# Altium footprint library AMSComponents.PcbLib: 22 footprints (part 1 of 2)
Each footprint in its own frame and in the unit in brackets; x right, y up, seen from the top. Pads: shape width x height; smd on the part's side, far side on the other; paste and mask are expansions set on the pad; w line width, h text height; cw(c..) or ccw(c..) is an arc to the next point about the centre after c.
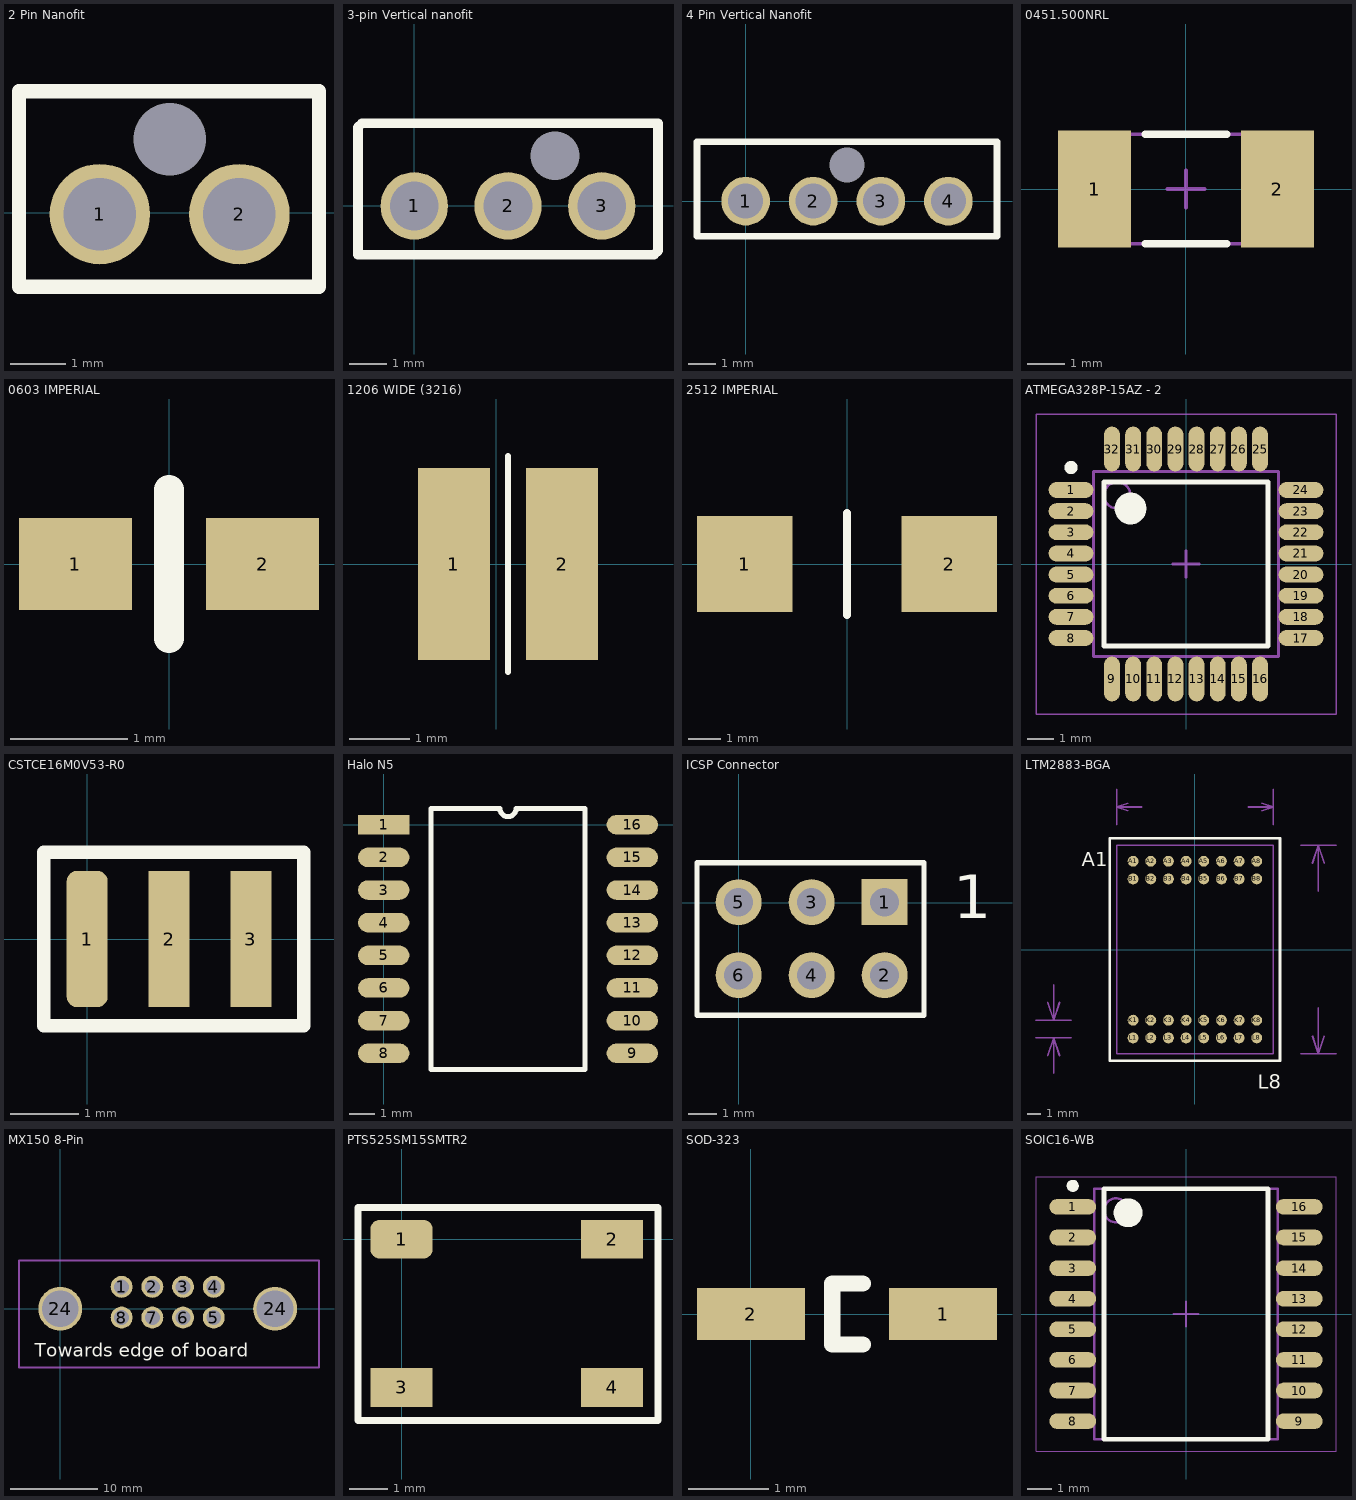
[diagram p0: the footprints below, top view; thin cyan lines are the x and y axes]

## 2 Pin Nanofit [mm]
pads (3):
  round 1.8 hole 1.3: 1(2.475,-0.025) 2(4.975,-0.025)
  round 0 hole 1.3: 3(3.725,1.315)
Top Overlay:
  lines w0.254: 1.025,-1.325 6.4,-1.325 6.4,2.175 1.025,2.175 1.025,-1.325

## 3-pin Vertical nanofit [mm]
pads (4):
  round 1.8 hole 1.3: 1(0,0) 2(2.5,0) 3(5,0)
  round 0 hole 1.3: 6(3.75,1.34)
Top Overlay:
  lines w0.254: -1.5,-1.3 -1.3,-1.3 6.4,-1.3 6.5,-1.2 6.5,2.2 -1.4,2.2 -1.5,2.1 -1.5,-1.1 -1.5,-1.3

## 4 Pin Vertical Nanofit [mm]
pads (5):
  round 1.8 hole 1.3: 1(0,0) 2(2.5,0) 3(5,0) 4(7.5,0)
  round 0 hole 1.3: 6(3.75,1.34)
Top Overlay:
  lines w0.254: -1.8,-1.3 -1.8,2.2 9.3,2.2 9.3,-1.3 -1.3,-1.3 -1.5,-1.3 -1.8,-1.3

## 0451.500NRL [mm] "Fuse Board MNT 500mA 125VAC/DC"
height 2.94
pads (2):
  rect 1.96x3.15 smd: 1(-2.455,0) 2(2.455,0)
Top Overlay:
  lines w0.2: -1.1,-1.475 1.1,-1.475 ; -1.1,1.475 1.1,1.475
Mechanical 13:
  lines w0.1: -3.15,-1.47 3.15,-1.47 3.15,1.47 -3.15,1.47 -3.15,-1.47
Mechanical 15:
  lines w0.1: -0.5,0 0.5,0 ; 0,-0.5 0,0.5
3D body: height 2.94, standoff 0, extent 1.7,-1.47 3.15,1.47
3D body: height 2.94, standoff 0, extent -3.15,-1.47 -1.7,1.47
3D body: height 2.94, standoff 0, extent -1.7,-1.47 1.7,1.47

## 0603 IMPERIAL [mil]
pads (2):
  rect 38x31 smd: 1(-31.5,0) 2(31.5,0)
Top Overlay:
  lines w10: 0,-25 0,25

## 1206 WIDE (3216) [mm]
pads (2):
  rect 1.2x3.2 smd: 1(-0.7,0) 2(1.1,0)
Top Overlay:
  lines w0.1: 0.2,-1.8 0.2,1.8

## 2512 IMPERIAL [mm]
pads (2):
  rect 3x3 smd: 1(-3.2,0) 2(3.2,0)
Top Overlay:
  lines w0.254: 0,-1.6 0,1.6

## ATMEGA328P-15AZ - 2 [mm] "TQFP, 32-Leads, Body 7.00x7.00mm, Pitch 0.80mm, IPC Low Density"
height 1.2
pads (32):
  oval 1.7x0.6 smd: 1(-4.35,2.8) 2(-4.35,2) 3(-4.35,1.2) 4(-4.35,0.4) 5(-4.35,-0.4) 6(-4.35,-1.2) 7(-4.35,-2) 8(-4.35,-2.8) 17(4.35,-2.8) 18(4.35,-2) 19(4.35,-1.2) 20(4.35,-0.4) 21(4.35,0.4) 22(4.35,1.2) 23(4.35,2) 24(4.35,2.8)
  oval 0.6x1.7 smd: 9(-2.8,-4.35) 10(-2,-4.35) 11(-1.2,-4.35) 12(-0.4,-4.35) 13(0.4,-4.35) 14(1.2,-4.35) 15(2,-4.35) 16(2.8,-4.35) 25(2.8,4.35) 26(2,4.35) 27(1.2,4.35) 28(0.4,4.35) 29(-0.4,4.35) 30(-1.2,4.35) 31(-2,4.35) 32(-2.8,4.35)
Top Overlay:
  circle w0.6: c-2.1,2.1 r0.3
  circle w0.25: c-4.35,3.65 r0.125
  lines w0.2: -3.1,-3.1 3.1,-3.1 3.1,3.1 -3.1,3.1 -3.1,-3.1
Mechanical 13:
  circle w0.1: c-2.6,2.6 r0.5
  lines w0.1: -3.5,-3.5 3.5,-3.5 3.5,3.5 -3.5,3.5 -3.5,-3.5
Mechanical 15:
  lines w0.05: -5.675,-5.675 5.675,-5.675 5.675,5.675 -5.675,5.675 -5.675,-5.675
  lines w0.1: -0.5,0 0.5,0 ; 0,-0.5 0,0.5
3D body: height 1.2, standoff 0.05, extent -3.5,-3.5 3.5,3.5

## CSTCE16M0V53-R0 [mm] "16MHz Resonator"
height 1
pads (3):
  rrect50% 0.6x2 smd: 1(0,0)
  rect 0.6x2 smd: 2(1.2,0) 3(2.4,0)
Top Overlay:
  lines w0.2: -0.635,-1.27 -0.635,-0.465 -0.635,1.27 3.175,1.27 3.175,-1.27 -0.635,-1.27

## Halo N5 [mm]
pads (16):
  rect 2x0.76 smd: 1(0,0)
  oval 2x0.76 smd: 2(0,-1.27) 3(0,-2.54) 4(0,-3.81) 5(0,-5.08) 6(0,-6.35) 7(0,-7.62) 8(0,-8.89) 9(9.67,-8.89) 10(9.67,-7.62) 11(9.67,-6.35) 12(9.67,-5.08) 13(9.67,-3.81) 14(9.67,-2.54) 15(9.67,-1.27) 16(9.67,0)
Top Overlay:
  lines w0.2: 1.835,-9.525 1.835,0.635 4.517,0.635 ccw(c4.835,0.635) 5.152,0.635 7.835,0.635 7.835,-9.525 1.835,-9.525

## ICSP Connector [mm]
pads (6):
  rect 1.6x1.6 hole 1: 1(5.08,0.025)
  round 1.6 hole 1: 2(5.08,-2.515) 3(2.54,0.025) 4(2.54,-2.515) 5(0,0.025) 6(0,-2.515)
Top Overlay:
  lines w0.178: -1.448,-3.912 6.452,-3.912 6.452,1.397 -1.448,1.397 -1.448,-3.912
  text "1" at 7.468,-0.533 h1.52

## LTM2883-BGA [mil] "http://www.linear.com/product/LTM2883#packaging"
pads (32):
  round 31 smd: A1(-175,250) A2(-125,250) A3(-75,250) A4(-25,250) A5(25,250) A6(75,250) A7(125,250) A8(175,250) B1(-175,200) B2(-125,200) B3(-75,200) B4(-25,200) B5(25,200) B6(75,200) B7(125,200) B8(175,200) K1(-175,-200) K2(-125,-200) K3(-75,-200) K4(-25,-200) K5(25,-200) K6(75,-200) K7(125,-200) K8(175,-200) L1(-175,-250) L2(-125,-250) L3(-75,-250) L4(-25,-250) L5(25,-250) L6(75,-250) L7(125,-250) L8(175,-250)
Top Overlay:
  lines w8: -241.14,-314.96 241.14,-314.96 241.14,314.96 -241.14,314.96 -241.14,-314.96
  text "L8" at 177.17,-393.7 h40
  text "A1" at -319.88,236.22 h40
Mechanical 16:
  lines w5: -450,-250 -350,-250 ; -450,-200 -350,-200 ; -416.67,-300 -400,-250 ; -416.67,-150 -400,-200 ; -400,-350 -400,-250 ; -400,-100 -400,-200 ; -383.33,-300 -400,-250 ; -383.33,-150 -400,-200 ; -221.46,353.54 -221.46,453.54 ; -189.96,393.04 -221.46,403.54 ; -189.96,414.04 -221.46,403.54 ; -151.44,403.54 -221.46,403.54 ; 151.44,403.54 221.46,403.54 ; 189.96,393.04 221.46,403.54 ; 189.96,414.04 221.46,403.54 ; 221.46,353.54 221.46,453.54 ; 299.41,-295.28 399.41,-295.28 ; 299.41,295.28 399.41,295.28 ; 332.74,-245.28 349.41,-295.28 ; 332.74,245.28 349.41,295.28 ; 349.41,-164.95 349.41,-295.28 ; 349.41,164.95 349.41,295.28 ; 366.08,-245.28 349.41,-295.28 ; 366.08,245.28 349.41,295.28 ; -221.46,-295.28 221.46,-295.28 221.46,295.28 -221.46,295.28 -221.46,-295.28
  text "11.25 (mm)" at -141.44,382.8 h31.5
  text "15 (mm)" at 379.4,-154.95 h50
  text "1.27 (mm)" at -280.03,-425.77 h50

## MX150 8-Pin [mm]
pads (10):
  round 2.5 hole 1.7: 1(7,2.5) 2(10.5,2.5) 3(14,2.5) 4(17.5,2.5) 5(17.5,-1) 6(14,-1) 7(10.5,-1) 8(7,-1)
  round 5 hole 4.2 mask+0.102: 24(0,0) 24(24.5,0)
Top Overlay:
  text "Towards edge of board" at -2.9,-5.5 h1.52
Mechanical 1:
  lines w0.254: -4.7,-6.7 -4.7,5.5 29.5,5.5 29.5,-6.7 -4.7,-6.7

## PTS525SM15SMTR2 [mm] "Tact Switch"
pads (4):
  rrect50% 1.6x1 smd: 1(0,0)
  rect 1.6x1 smd: 2(5.4,0) 3(0,-3.8) 4(5.4,-3.8)
Top Overlay:
  lines w0.178: -1.118,-4.648 -1.118,0.813 6.579,0.813 6.579,-4.648 -1.118,-4.648

## SOD-323 [mm] "FLYBACK DIODE"
pads (2):
  rect 1.35x0.65 smd: 1(2.4,0) 2(0,0)
Top Overlay:
  lines w0.203: 1.397,-0.381 1.016,-0.381 1.016,0.381 1.397,0.381

## SOIC16-WB [mm] "Wide Body 16 pin SOIC"
height 2.65
pads (16):
  oval 1.95x0.65 smd: 1(-4.7,4.445) 2(-4.7,3.175) 3(-4.7,1.905) 4(-4.7,0.635) 5(-4.7,-0.635) 6(-4.7,-1.905) 7(-4.7,-3.175) 8(-4.7,-4.445) 9(4.7,-4.445) 10(4.7,-3.175) 11(4.7,-1.905) 12(4.7,-0.635) 13(4.7,0.635) 14(4.7,1.905) 15(4.7,3.175) 16(4.7,4.445)
Top Overlay:
  circle w0.6: c-2.4,4.2 r0.3
  circle w0.25: c-4.7,5.32 r0.125
  lines w0.2: -3.4,-5.2 3.4,-5.2 3.4,5.2 -3.4,5.2 -3.4,-5.2
Mechanical 13:
  circle w0.1: c-2.9,4.3 r0.5
  lines w0.1: -3.8,-5.2 3.8,-5.2 3.8,5.2 -3.8,5.2 -3.8,-5.2
Mechanical 15:
  lines w0.05: -6.225,-5.7 6.225,-5.7 6.225,5.7 -6.225,5.7 -6.225,-5.7
  lines w0.1: -0.5,0 0.5,0 ; 0,-0.5 0,0.5
3D body: height 2.65, standoff 0.1, extent -3.8,-5.2 3.8,5.2